# Altium schematic symbol library SamacSys.SchLib: 241 symbols (part 1 of 3)
Pins are listed as number, name and electrical type; pins without a type are passive.

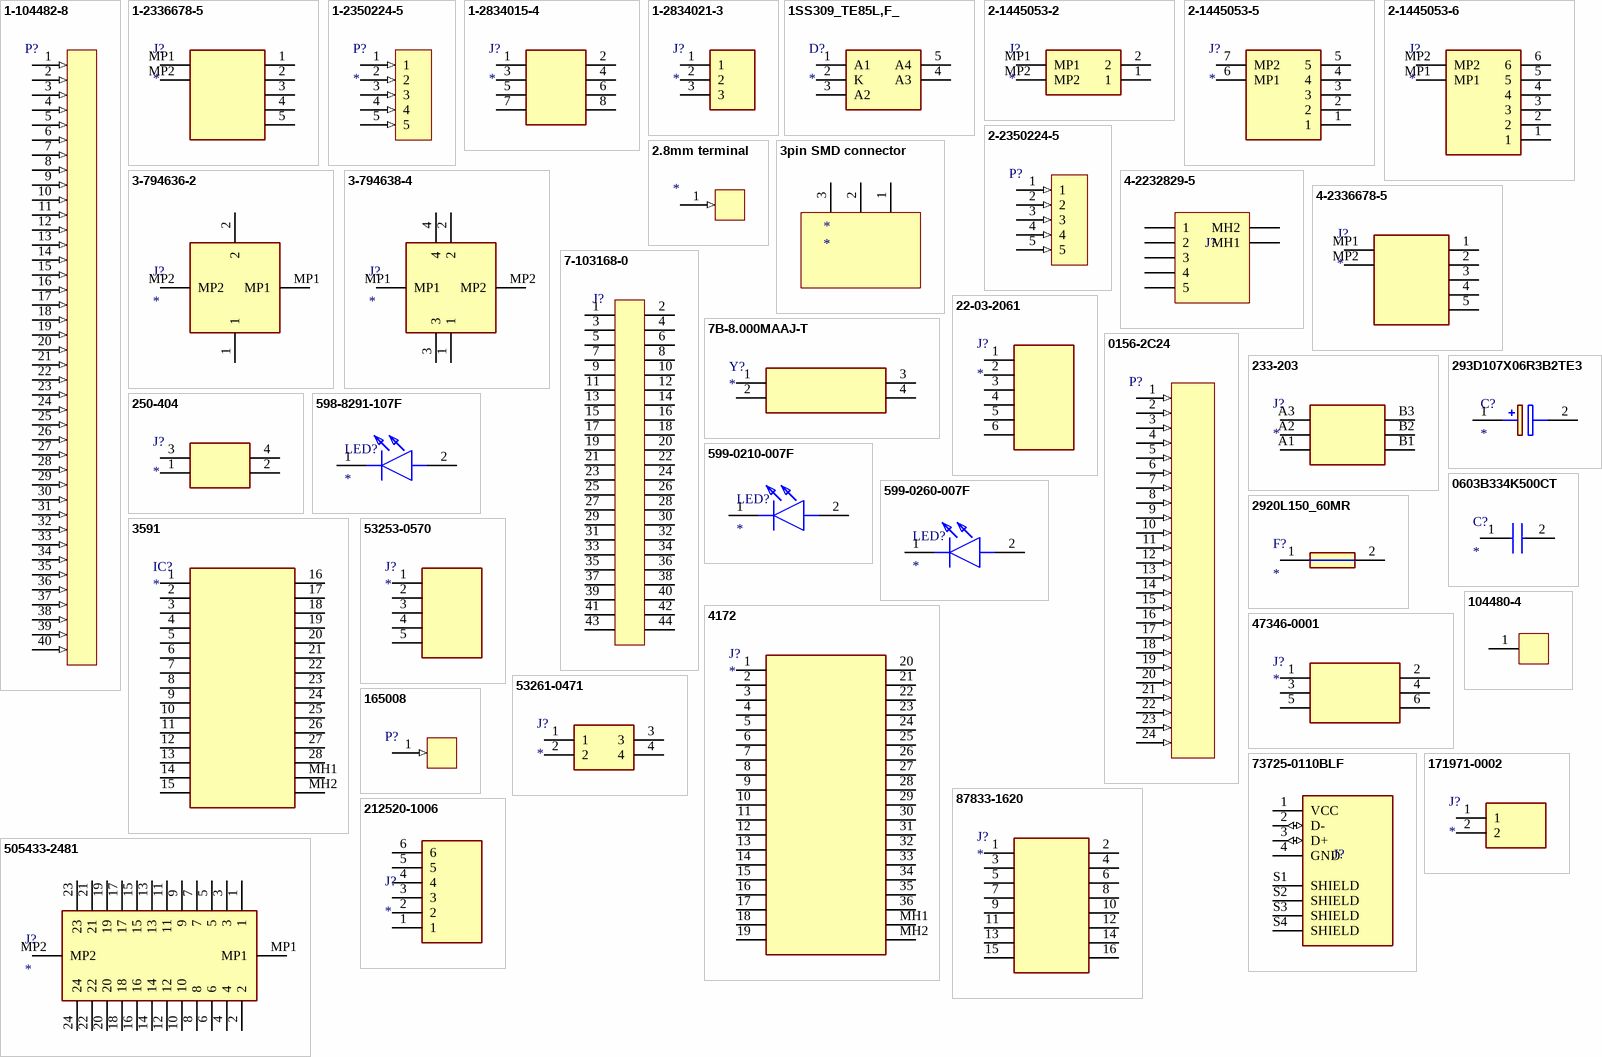
[diagram p0: symbols 1-104482-8 to 505433-2481]

## 1-104482-8
designator P?  (value not drawn)
40pin 2 row Wire to Board Housing (Harness)
footprint 1-104482-8 (40 pin 2 row connector (harness))
pins: 1 (in), 2 (in), 3 (in), 4 (in), 5 (in), 6 (in), 7 (in), 8 (in), 9 (in), 10 (in), 11 (in), 12 (in), 13 (in), 14 (in), 15 (in), 16 (in), 17 (in), 18 (in), 19 (in), 20 (in), 21 (in), 22 (in), 23 (in), 24 (in), 25 (in), 26 (in), 27 (in), 28 (in), 29 (in), 30 (in), 31 (in), 32 (in), 33 (in), 34 (in), 35 (in), 36 (in), 37 (in), 38 (in), 39 (in), 40 (in)

## 1-2336678-5
designator J?
Connector; Manufacturer_Name: TE Connectivity; Manufacturer_Part_Number: 1-2336678-5; Datasheet Link: https://www.te.com/en/product-1-2336678-5.html; Height: 7.76mm
footprint 123366785
pins: 1, 2, 3, 4, 5, MP1, MP2

## 1-2350224-5
designator P?
TE connector 5 pin 1 row (Harness)
footprint 1-2350224-5 (TE connector 5 pin 1 row (Harness))
pins: 1 (in), 2 (in), 3 (in), 4 (in), 5 (in)

## 1-2834015-4
designator J?
Connector; Manufacturer_Name: TE Connectivity; Manufacturer_Part_Number: 1-2834015-4; Allied_Number: 71211226; Datasheet Link: http://www.te.com/commerce/DocumentDelivery/DDEController?Action=srchrtrv&DocNm=2834015&DocType=Customer+Drawing&DocLang=English; Height: 13.9mm; Mouser Part Number: 571-1-2834015-4; Mouser Price/Stock: https://www.mouser.com/Search/Refine.aspx?Keyword=571-1-2834015-4; Allied Price/Stock: https://www.alliedelec.com/teconnectivity-1-2834015-4/71211226/
footprint SHDR8W90P508X254_2X4_1316X1280X1390P
pins: 1, 2, 3, 4, 5, 6, 7, 8

## 1-2834021-3
designator J?
Connector; Manufacturer_Name: TE Connectivity; Manufacturer_Part_Number: 1-2834021-3; Datasheet Link: https://www.te.com/commerce/DocumentDelivery/DDEController?Action=srchrtrv&DocNm=1-1773930-3_BuchananWM_Brochure&DocType=Data+Sheet&DocLang=English&PartCntxt=1-2834021-3&DocFormat=pdf; Height: 12.9mm; Mouser Part Number: 571-1-2834021-3; Mouser Price/Stock: https://www.mouser.co.uk/ProductDetail/TE-Connectivity/1-2834021-3?qs=0ns%252B%2F2Cp7jHv8i4bMwPkUg%3D%3D; Arrow Part Number: 1-2834021-3; Arrow Price/Stock: https://www.arrow.com/en/products/1-2834021-3/te-connectivity?region=nac
footprint 128340213
pins: 1, 2, 3

## 1SS309_TE85L,F_
designator D?
Diode; Manufacturer_Name: Toshiba; Manufacturer_Part_Number: 1SS309(TE85L,F); Datasheet Link: https://toshiba.semicon-storage.com/info/docget.jsp?did=3305&prodName=1SS309; Height: 1.4mm; Mouser Part Number: 757-1SS309TE85LF; Mouser Price/Stock: https://www.mouser.co.uk/ProductDetail/Toshiba/1SS309TE85LF?qs=JiHARDETuZC0u2sjx04cWA%3D%3D; Arrow Part Number: 1SS309(TE85L,F); Arrow Price/Stock: https://www.arrow.com/en/products/1ss309-te85lf/toshiba?region=nac
footprint 1SS309TE85LF
pins: 1 A1, 2 K, 3 A2, 4 A3, 5 A4

## 2-1445053-2
designator J?
Connector; Manufacturer_Name: TE Connectivity; Manufacturer_Part_Number: 2-1445053-2; Datasheet Link: https://www.te.com/commerce/DocumentDelivery/DDEController?Action=srchrtrv&DocNm=micro-mate-n-lok-connector-qrg&DocType=Data%20Sheet&DocLang=English&PartCntxt=2-1445053-2&DocFormat=pdf; Height: 4.5mm; Mouser Part Number: 571-2-1445053-2; Mouser Price/Stock: https://www.mouser.co.uk/ProductDetail/TE-Connectivity-AMP/2-1445053-2?qs=o%252BFOr83vtS83CwW8ESkohA%3D%3D; Arrow Part Number: 2-1445053-2; Arrow Price/Stock: https://www.arrow.com/en/products/2-1445053-2/te-connectivity?utm_currency=USD&region=nac
footprint 214450532
pins: 1, 2, MP1, MP2

## 2-1445053-5
designator J?
Connector; Manufacturer_Name: TE Connectivity; Manufacturer_Part_Number: 2-1445053-5; Datasheet Link: https://www.te.com/commerce/DocumentDelivery/DDEController?Action=srchrtrv&DocNm=1445053&DocType=Customer+Drawing&DocLang=English; Height: 9.44mm; Mouser Part Number: 571-2-1445053-5; Mouser Price/Stock: https://www.mouser.co.uk/ProductDetail/TE-Connectivity-AMP/2-1445053-5?qs=Eu63EZxBwKICIH%252B10d%252Bg6w%3D%3D; Arrow Part Number: 2-1445053-5; Arrow Price/Stock: https://www.arrow.com/en/products/2-1445053-5/te-connectivity
footprint 214450535
pins: 1, 2, 3, 4, 5, 6 MP1, 7 MP2

## 2-1445053-6
designator J?
Connector; Manufacturer_Name: TE Connectivity; Manufacturer_Part_Number: 2-1445053-6; Datasheet Link: https://www.te.com/commerce/DocumentDelivery/DDEController?Action=srchrtrv&DocNm=micro-mate-n-lok-connector-qrg&DocType=Data%20Sheet&DocLang=English&PartCntxt=2-1445053-6&DocFormat=pdf; Height: 9.24mm; Mouser Part Number: 571-2-1445053-6; Mouser Price/Stock: https://www.mouser.co.uk/ProductDetail/TE-Connectivity-AMP/2-1445053-6?qs=Eu63EZxBwKKYIFNYoD2IkQ%3D%3D; Arrow Part Number: 2-1445053-6; Arrow Price/Stock: https://www.arrow.com/en/products/2-1445053-6/te-connectivity
footprint 214450536
pins: 1, 2, 3, 4, 5, 6, MP1, MP2

## 2-2350224-5
designator P?  (value not drawn)
4-2232979-5 5 pin 1 row connector (Harness)
footprint 2-2350224-5 (5 pin 1 row connector (Harness))
pins: 1 (in), 2 (in), 3 (in), 4 (in), 5 (in)

## 2.8mm terminal
designator *  (value not drawn)
2.8mm terminal (crimp)
pins: 1 (in)

## 3-794636-2
designator J?
Connector; Manufacturer_Name: TE Connectivity; Manufacturer_Part_Number: 3-794636-2; Datasheet Link: https://www.te.com/commerce/DocumentDelivery/DDEController?Action=srchrtrv&DocNm=micro-mate-n-lok-connector-qrg&DocType=Data%20Sheet&DocLang=English&PartCntxt=3-794636-2&DocFormat=pdf; Height: 9.24mm; Mouser Part Number: 571-3-794636-2; Mouser Price/Stock: https://www.mouser.co.uk/ProductDetail/TE-Connectivity-AMP/3-794636-2?qs=v9Lq4wUS19yMv%2FoCX5pCFA%3D%3D; Arrow Part Number: 3-794636-2; Arrow Price/Stock: https://www.arrow.com/en/products/3-794636-2/te-connectivity
footprint 37946362
pins: 1, 2, MP1, MP2

## 3-794638-4
designator J?
Connector; Manufacturer_Name: TE Connectivity; Manufacturer_Part_Number: 3-794638-4; Datasheet Link: https://www.te.com/commerce/DocumentDelivery/DDEController?Action=srchrtrv&DocNm=micro-mate-n-lok-connector-qrg&DocType=Data%20Sheet&DocLang=English&PartCntxt=3-794638-4&DocFormat=pdf; Height: 9.37mm; Mouser Part Number: 571-3-794638-4; Mouser Price/Stock: https://www.mouser.co.uk/ProductDetail/TE-Connectivity-AMP/3-794638-4?qs=Rd%252BN518myCxan2OudY6UqA%3D%3D; Arrow Part Number: 3-794638-4; Arrow Price/Stock: https://www.arrow.com/en/products/3-794638-4/te-connectivity?region=nac
footprint 37946384
pins: 1, 2, 3, 4, MP1, MP2

## 3pin SMD connector
designator *
footprint 3pin connector SMD; pin to pad 1>A1 2>A2 3>A3
pins: 1, 2, 3

## 4-2232829-5
designator J?  (value not drawn)
SGI2.0 connector vertical
footprint 4-2232829-5 (PCB connector grace intertia 2.0 vertical)
pins: 1, 2, 3, 4, 5, MH1, MH2

## 4-2336678-5
designator J?
Connector; Manufacturer_Name: TE Connectivity; Manufacturer_Part_Number: 4-2336678-5; Datasheet Link: https://www.te.com/en/product-1-2336678-5.html; Height: 7.76mm
footprint 423366785
pins: 1, 2, 3, 4, 5, MP1, MP2

## 7-103168-0
designator J?  (value not drawn)
44 MODII HDR DRST SHRD .100CL
footprint 7-103168-0
pins: 1, 2, 3, 4, 5, 6, 7, 8, 9, 10, 11, 12, 13, 14, 15, 16, 17, 18, 19, 20, 21, 22, 23, 24, 25, 26, 27, 28, 29, 30, 31, 32, 33, 34, 35, 36, 37, 38, 39, 40, 41, 42, 43, 44

## 7B-8.000MAAJ-T
designator Y?
Crystal or Oscillator; Manufacturer_Name: TXC; Manufacturer_Part_Number: 7B-8.000MAAJ-T; Datasheet Link: http://www.txccrystal.com/images/pdf/7b.pdf; Mouser Part Number: 717-7B-8.000MAAJ-T; Mouser Price/Stock: https://www.mouser.com/Search/Refine.aspx?Keyword=717-7B-8.000MAAJ-T
footprint 7B; pin to pad 3>4 4>3
pins: 1, 2 GND_1, 3, 4 GND_2

## 22-03-2061
designator J?
Connector; Manufacturer_Name: Molex; Datasheet Link: http://www.molex.com/pdm_docs/sd/022032061_sd.pdf; Height: 11.17mm; Manufacturer_Part_Number: 22-03-2061; Mouser Part Number: 538-22-03-2061; Mouser Price/Stock: https://www.mouser.co.uk/ProductDetail/Molex/22-03-2061?qs=ILqg114nvd4SwQfnEo4EcQ%3D%3D
footprint HDRV6W82P0X254_1X6_1499X236X1117P
pins: 1, 2, 3, 4, 5, 6

## 0156-2C24
designator P?  (value not drawn)
Pluggable Terminal Connector for 1-2842487-2  2 row 12 pin
footprint 0156-2C24 (Kinco Driver GPIO controller 2 row 12 pin (Harness))
pins: 1 (in), 2 (in), 3 (in), 4 (in), 5 (in), 6 (in), 7 (in), 8 (in), 9 (in), 10 (in), 11 (in), 12 (in), 13 (in), 14 (in), 15 (in), 16 (in), 17 (in), 18 (in), 19 (in), 20 (in), 21 (in), 22 (in), 23 (in), 24 (in)

## 233-203
designator J?
Connector; Manufacturer_Name: Wago; Manufacturer_Part_Number: 233-203; Datasheet Link: https://wago.priintcloud.com/datasheets/233-203/en/0e0c7616b2ffc94404095570adf61bb7?attempt=1&signature=e598975677093b9ca0c7d21f4a8dfac5_1grff8pt1; Height: 15.5mm
footprint 233203
pins: A1, A2, A3, B1, B2, B3

## 250-404
designator J?
Connector; Manufacturer_Name: Wago; Manufacturer_Part_Number: 250-404; Datasheet Link: https://www.wago.com/in/pcb-terminal-blocks-and-pluggable-connectors/1-conductor-pcb-terminal-strip/p/250-404; Height: 13.1mm
footprint 250404
pins: 1, 2, 3, 4

## 293D107X06R3B2TE3
designator C?
Capacitor Polarised; Manufacturer_Name: Vishay; Manufacturer_Part_Number: 293D107X06R3B2TE3; Datasheet Link: http://www.vishay.com/docs/40002/293d.pdf; Height: 2.1mm; Mouser Part Number: N/A; Mouser Price/Stock: https://www.mouser.com/Search/Refine.aspx?Keyword=N%2FA
footprint CAPPM3528X210N
pins: 1 +, 2 -

## 598-8291-107F
designator LED?
LED; Manufacturer_Name: Dialight; Manufacturer_Part_Number: 598-8291-107F; Datasheet Link: https://componentsearchengine.com/Datasheets/1/598-8291-107F.pdf; Height: 0.68mm; Mouser Part Number: 645-598-8291-107F; Mouser Price/Stock: https://www.mouser.co.uk/ProductDetail/Dialight/598-8291-107F?qs=7JStj%2FjQ2SGrQp4L9K26JA%3D%3D; Arrow Part Number: 598-8291-107F; Arrow Price/Stock: https://www.arrow.com/en/products/598-8291-107f/dialight?region=nac
footprint LEDC3216X68N
pins: 1 K, 2 A

## 599-0210-007F
designator LED?
LED; Manufacturer_Name: Dialight; Manufacturer_Part_Number: 599-0210-007F; Datasheet Link: http://www.dialightsignalsandcomponents.com/Assets/Brochures_And_Catalogs/Indication/CBI_SMD_new/Dialight_CBI_data_599-1206_Apr2018.pdf; Height: 0.9mm; Mouser Part Number: 645-599-0210-007F; Mouser Price/Stock: https://www.mouser.co.uk/ProductDetail/Dialight/599-0210-007F?qs=gTYE2QTfZfRnv7f5dCtvhw%3D%3D
footprint LEDC3216X90N
pins: 1 K, 2 A

## 599-0260-007F
designator LED?
LED; Manufacturer_Name: Dialight; Manufacturer_Part_Number: 599-0260-007F; Datasheet Link: https://www.mouser.com/datasheet/2/109/Dialight_CBI_data_599-1206_Apr2018-1370591.pdf; Height: 0.9mm; Mouser Part Number: 645-599-0260-007F; Mouser Price/Stock: https://www.mouser.co.uk/ProductDetail/Dialight/599-0260-007F?qs=gTYE2QTfZfQJvJ6EQr5JuQ%3D%3D
footprint LEDM3216X90N
pins: 1 K, 2 A

## 0603B334K500CT
designator C?
Capacitor; Manufacturer_Name: Walsin Technology Corporation; Manufacturer_Part_Number: 0603B334K500CT; Datasheet Link: https://www.mouser.ie/datasheet/2/210/WTC_MLCC_General_Purpose-1534899.pdf; Height: 0.95mm; Mouser Part Number: 791-0603B334K500CT; Mouser Price/Stock: https://www.mouser.co.uk/ProductDetail/Walsin/0603B334K500CT?qs=hzBznG4dWXVGs39ciqiqOw%3D%3D
footprint CAPC1608X95N
pins: 1, 2

## 2920L150_60MR
designator F?
Fuse; Manufacturer_Name: LITTELFUSE; Manufacturer_Part_Number: 2920L150/60MR; Datasheet Link: https://www.littelfuse.com/media?resourcetype=datasheets&itemid=f237e8c2-1ed9-4c13-a738-dbe0738b3d2c&filename=2920l_datasheet_update.pdf; Height: 1.8mm; Mouser Part Number: 576-2920L150/60MR; Mouser Price/Stock: https://www.mouser.co.uk/ProductDetail/Littelfuse/2920L150-60MR?qs=ST9lo4GX8V38m%2FHq5uhZ8w%3D%3D; Arrow Part Number: 2920L150/60MR; Arrow Price/Stock: https://www.arrow.com/en/products/2920l15060mr/littelfuse?utm_currency=USD&region=nac
footprint FUSC7451X180N
pins: 1, 2

## 3591
designator IC?
Integrated Circuit; Manufacturer_Name: Adafruit; Manufacturer_Part_Number: 3591; Allied_Number: 71458397; Datasheet Link: https://cdn-learn.adafruit.com/downloads/pdf/adafruit-huzzah32-esp32-feather.pdf; Height: 15.6mm; Mouser Part Number: 485-3591; Mouser Price/Stock: https://www.mouser.com/Search/Refine.aspx?Keyword=485-3591; Allied Price/Stock: https://www.alliedelec.com/adafruitindustries-3591/71458397/
footprint 3591
pins: 1 IO21, 2 IO17, 3 IO16, 4 MISO, 5 MOSI, 6 SCK, 7 A5, 8 A4, 9 A3, 10 A2, 11 A1, 12 A0, 13 GND, 14 NC, 15 3V, 16 RST, 17 VBAT, 18 EN, 19 VBUS, 20 IO13, 21 IO12, 22 IO27, 23 IO33, 24 IO15, 25 IO32, 26 IO14, 27 SCL, 28 SDA, MH1, MH2

## 4172
designator J?
Connector; Manufacturer_Name: Adafruit; Manufacturer_Part_Number: 4172; Datasheet Link: https://www.adafruit.com/product/4172; Height: 4.8mm; Mouser Part Number: 485-4172; Mouser Price/Stock: https://www.mouser.com/Search/Refine.aspx?Keyword=485-4172
footprint 4172
pins: 1 RST, 2 36, 3 39, 4 34, 5 35, 6 32, 7 33, 8 25, 9 26, 10 27, 11 14, 12, 13, 14 3V, 15 GND_1, 16 NC_1, 17 TX_1, 18 RX_1, 19 V+, 20 NC_2, 21 GND_2, 22 BAT, 23 15, 24 #2, 25 #0, 26 #4, 27 16, 28 17, 29 #5, 30 18, 31 19, 32 21, 33 RX_2, 34 TX_2, 35 22, 36 23, MH1, MH2

## 47346-0001
designator J?
Connector; Manufacturer_Name: Molex; Manufacturer_Part_Number: 47346-0001; Allied_Number: 70266948; Datasheet Link: http://www.molex.com/pdm_docs/sd/473460001_sd.pdf; Mouser Part Number: 538-47346-0001; Mouser Price/Stock: https://www.mouser.com/Search/Refine.aspx?Keyword=538-47346-0001; RS Part Number: 7025475P; RS Price/Stock: http://uk.rs-online.com/web/p/products/7025475P; Allied Price/Stock: https://www.alliedelec.com/molex-incorporated-47346-0001/70266948/
footprint 47346-0001
pins: 1 VBUS, 2 D-, 3 D+, 4 ID, 5 GND, 6 Shield

## 53253-0570
designator J?
Connector; Manufacturer_Name: Molex; Manufacturer_Part_Number: 53253-0570; Allied_Number: 70372715; Datasheet Link: http://docs-emea.rs-online.com/webdocs/0dc7/0900766b80dc7d55.pdf; Height: 5.5mm; Mouser Part Number: 538-53253-0570; Mouser Price/Stock: https://www.mouser.com/Search/Refine.aspx?Keyword=538-53253-0570; RS Part Number: 6883280P; RS Price/Stock: http://uk.rs-online.com/web/p/products/6883280P; Allied Price/Stock: https://www.alliedelec.com/molexincorporated-53253-0570/70372715/
footprint SHDR5W50P0X200_1X5_1200X365X550P
pins: 1, 2, 3, 4, 5

## 53261-0471
designator J?
Connector; Manufacturer_Name: Molex; Manufacturer_Part_Number: 53261-0471; Datasheet Link: http://www.molex.com/webdocs/datasheets/pdf/en-us//0532610471_PCB_HEADERS.pdf; Mouser Part Number: 538-53261-0471; Mouser Price/Stock: https://www.mouser.co.uk/ProductDetail/Molex/53261-0471?qs=%252B72YyncTwW9e3et3PwnEMw%3D%3D; Arrow Part Number: 53261-0471; Arrow Price/Stock: null?region=nac
footprint 53261-0471
pins: 1, 2, 3, 4

## 73725-0110BLF
designator J?  (value not drawn)
USB connector 2.0
footprint 73725-0110BLF (USB connector 2.0)
pins: 1 VCC (power), 2 D- (io), 3 D+ (io), 4 GND (power), S1 SHIELD, S2 SHIELD, S3 SHIELD, S4 SHIELD

## 87833-1620
designator J?
Connector; Manufacturer_Name: Molex; Manufacturer_Part_Number: 87833-1620; Allied_Number: 70375137; Datasheet Link: http://www.molex.com/webdocs/datasheets/pdf/en-us//0878331620_PCB_HEADERS.pdf; Mouser Part Number: 538-87833-1620; Mouser Price/Stock: https://www.mouser.com/Search/Refine.aspx?Keyword=538-87833-1620; RS Part Number: 7978865; RS Price/Stock: https://uk.rs-online.com/web/p/products/7978865; Allied Price/Stock: https://www.alliedelec.com/molex-incorporated-87833-1620/70375137/
footprint 87833-1620
pins: 1, 2, 3, 4, 5, 6, 7, 8, 9, 10, 11, 12, 13, 14, 15, 16

## 104480-4
designator *  (value not drawn)
Female Crimp for 1-104482-8; Strip Length: 1mm
footprint 104480-4 (Crimp for 1-104482-8)
pins: 1

## 165008
designator P?  (value not drawn)
Spade Terminal 4mm TE fork; HelpURL: https://www.te.com/usa-en/product-165008.datasheet.pdf
footprint 165008 (Spade Terminal 4mm Fork (Harness))
pins: 1 (in)

## 171971-0002
designator J?
Connector; Manufacturer_Name: Molex; Manufacturer_Part_Number: 171971-0002; Datasheet Link: https://www.molex.com/pdm_docs/sd/1719710102_sd.pdf; Height: 12.16mm; Mouser Part Number: 538-171971-0002; Mouser Price/Stock: https://www.mouser.co.uk/ProductDetail/Molex/171971-0002?qs=lc2O%252BfHJPVZiIVvtLkRJ0A%3D%3D; Arrow Part Number: 171971-0002; Arrow Price/Stock: https://www.arrow.com/en/products/1719710002/molex?region=europe
footprint SHDR2W65P0X254_1X2_738X510X1216P
pins: 1, 2

## 212520-1006
designator J?
Connector; Manufacturer_Name: Molex; Manufacturer_Part_Number: 212520-1006; Datasheet Link: https://www.molex.com/pdm_docs/sd/2125201006_sd.pdf; Height: 13.6mm; Mouser Part Number: 538-212520-1006; Mouser Price/Stock: https://www.mouser.co.uk/ProductDetail/Molex/212520-1006?qs=pUKx8fyJudA8jKWmA%2FIrSg%3D%3D
footprint 212520-1006
pins: 1, 2, 3, 4, 5, 6

## 505433-2481
designator J?
Connector; Manufacturer_Name: Molex; Manufacturer_Part_Number: 505433-2481; Datasheet Link: https://www.molex.com/pdm_docs/sd/5054332481_sd.pdf; Height: 7.45mm; Mouser Part Number: 538-505433-2481; Mouser Price/Stock: https://www.mouser.co.uk/ProductDetail/Molex/505433-2481?qs=gt1LBUVyoHmi%252BX6jjqTc4w%3D%3D
footprint 5054332481
pins: 1, 2, 3, 4, 5, 6, 7, 8, 9, 10, 11, 12, 13, 14, 15, 16, 17, 18, 19, 20, 21, 22, 23, 24, MP1, MP2

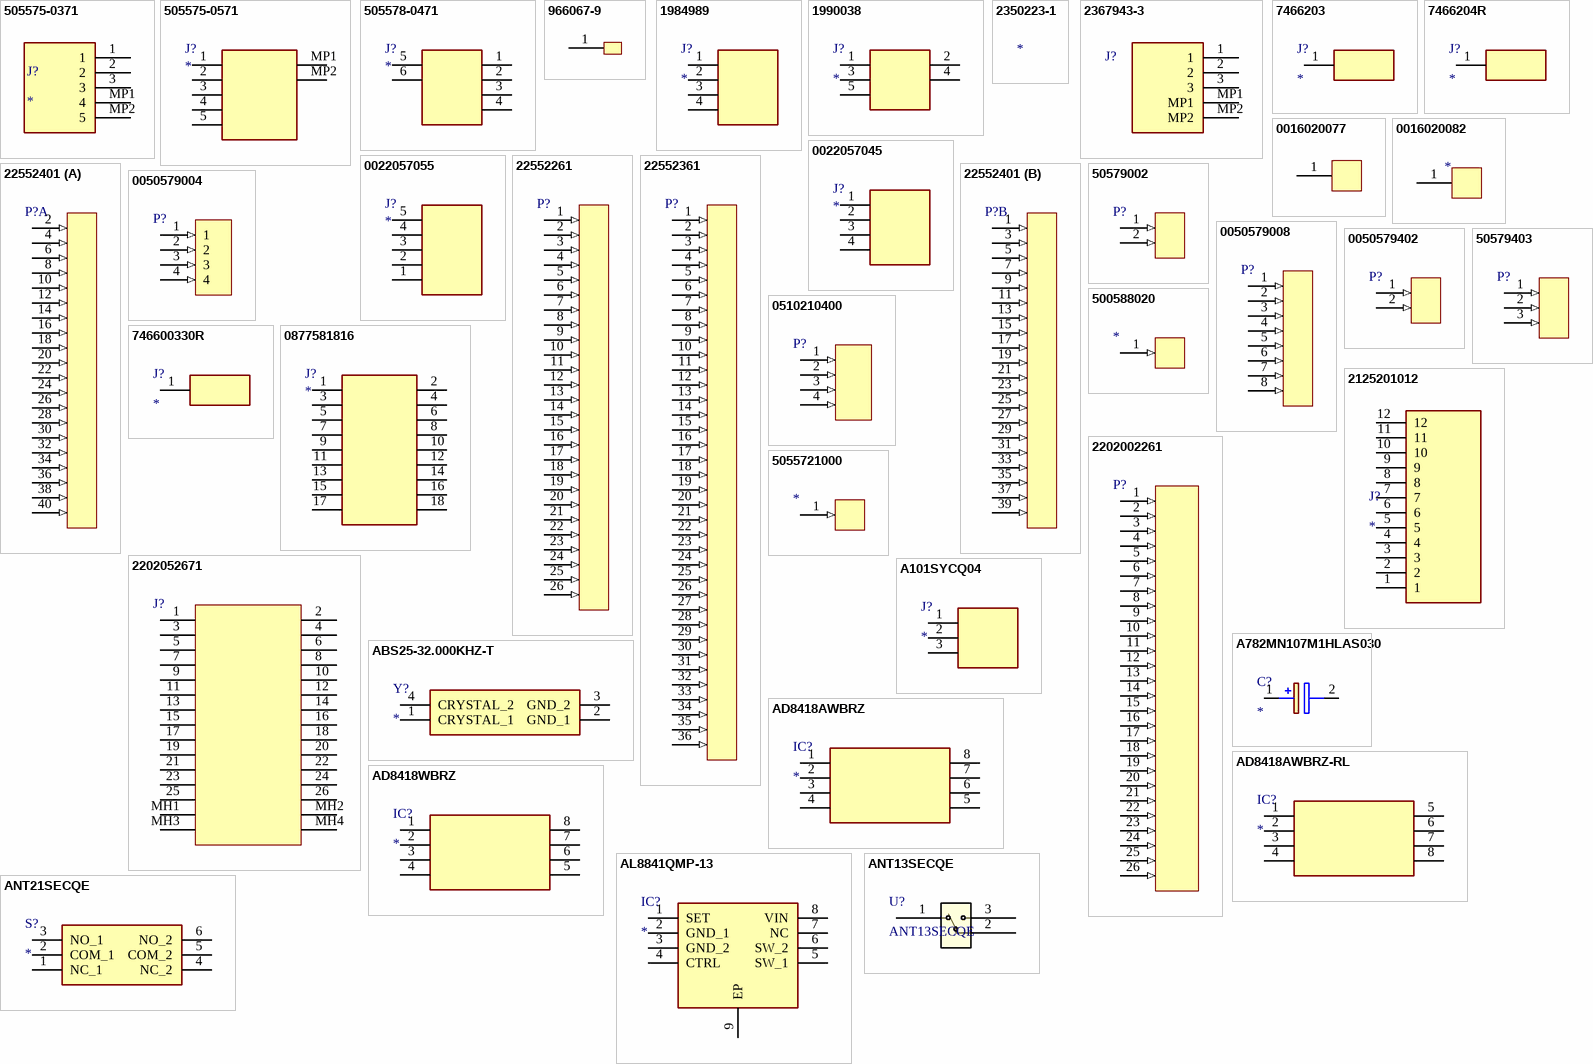
[diagram p1: symbols 505575-0371 to ANT21SECQE]

## 505575-0371
designator J?
Connector; Manufacturer_Name: Molex; Manufacturer_Part_Number: 505575-0371; Datasheet Link: https://componentsearchengine.com/Datasheets/1/505575-0371.pdf; Height: 8.8mm; Mouser Part Number: 538-505575-0371; Mouser Price/Stock: https://www.mouser.co.uk/ProductDetail/Molex/505575-0371?qs=55YtniHzbhAu5ZUwc2jI7A%3D%3D
footprint 5055750371
pins: 1, 2, 3, MP1 4, MP2 5

## 505575-0571
designator J?
Connector; Manufacturer_Name: Molex; Manufacturer_Part_Number: 505575-0571; Allied_Number: 71204949; Datasheet Link: https://www.molex.com/pdm_docs/sd/5055750571_sd.pdf; Height: 8.8mm; Mouser Part Number: 538-505575-0571; Mouser Price/Stock: https://www.mouser.com/Search/Refine.aspx?Keyword=538-505575-0571; RS Part Number: 1865131; RS Price/Stock: http://uk.rs-online.com/web/p/products/1865131; Allied Price/Stock: https://www.alliedelec.com/molexincorporated-505575-0571/71204949/
footprint 5055750571
pins: 1, 2, 3, 4, 5, MP1, MP2

## 505578-0471
designator J?
Connector; Manufacturer_Name: Molex; Manufacturer_Part_Number: 505578-0471; Allied_Number: 71204943; Datasheet Link: https://www.molex.com/pdm_docs/sd/5055780471_sd.pdf; Height: 5.9mm; Mouser Part Number: 538-505578-0471; Mouser Price/Stock: https://www.mouser.com/Search/Refine.aspx?Keyword=538-505578-0471; RS Part Number: 1865046; RS Price/Stock: http://uk.rs-online.com/web/p/products/1865046; Allied Price/Stock: https://www.alliedelec.com/molex-incorporated-505578-0471/71204943/
footprint 5055780471
pins: 1, 2, 3, 4, 5, 6

## 966067-9
designator *  (value not drawn)
Crimp ferrule terminal (Harness)
footprint 966067-9 (ferrule Terminal (Harness))
pins: 1

## 1984989
designator J?
Connector; Manufacturer_Name: Phoenix Contact; Manufacturer_Part_Number: 1984989; Datasheet Link: https://datasheet.datasheetarchive.com/originals/distributors/SFDatasheet-2/sf-00059051.pdf; Height: 13.1mm; Mouser Part Number: 651-1984989; Mouser Price/Stock: https://www.mouser.co.uk/ProductDetail/Phoenix-Contact/1984989?qs=gjk32EaArKIKoJA%252BzRGB2g%3D%3D; Arrow Part Number: 1984989; Arrow Price/Stock: https://www.arrow.com/en/products/1984989/phoenix-contact?region=nac
footprint 1984989
pins: 1, 2, 3, 4

## 1990038
designator J?
Connector; Manufacturer_Name: Phoenix Contact; Manufacturer_Part_Number: 1990038; Datasheet Link: http://www.phoenixcontact.net/product/1990038; Height: 16.4mm; Mouser Part Number: 651-1990038; Mouser Price/Stock: https://www.mouser.co.uk/ProductDetail/Phoenix-Contact/1990038?qs=sps7W%2FwBcGG%2Fj7A7AAdz8A%3D%3D; Arrow Part Number: 1990038; Arrow Price/Stock: https://www.arrow.com/en/products/1990038/phoenix-contact?region=nac
footprint 1990038
pins: 1, 2, 3, 4, 5

## 2350223-1
designator *  (value not drawn)
Crimp for 1-2350224-5

## 2367943-3
designator J?  (value not drawn)
Connector; Manufacturer_Name: TE Connectivity; Manufacturer_Part_Number: 2367943-3; Datasheet Link: https://www.te.com/commerce/DocumentDelivery/DDEController?Action=showdoc&DocId=Customer+Drawing%7F2367943%7FA%7Fpdf%7FEnglish%7FENG_CD_2367943_A.pdf%7F2367943-3; Height: 9.1mm
footprint 23679433
pins: 1, 2, 3, MP1, MP2

## 7466203
designator J?
Connector; Manufacturer_Name: Wurth Elektronik; Manufacturer_Part_Number: 7466203; Datasheet Link: https://componentsearchengine.com/Datasheets/2/7466203.pdf; Height: 7mm; Mouser Part Number: 710-7466203; Mouser Price/Stock: https://www.mouser.co.uk/ProductDetail/Wurth-Elektronik/7466203?qs=IfoubJuuTRb774UUJ30heA%3D%3D
footprint 7466203
pins: 1

## 7466204R
designator J?
Connector; Manufacturer_Name: Wurth Elektronik; Manufacturer_Part_Number: 7466204R; Datasheet Link: https://www.mouser.de/datasheet/2/445/7466204R-1723896.pdf; Height: 7mm; Mouser Part Number: 710-7466204R; Mouser Price/Stock: https://www.mouser.co.uk/ProductDetail/Wurth-Elektronik/7466204R?qs=%2FVVNuEXTTcLC2VgfUN3rsw%3D%3D
footprint 7466204R
pins: 1

## 0016020077
designator *  (value not drawn)
Male crimp for Molex SL
pins: 1

## 0016020082
designator *  (value not drawn)
Female Crimp for Molex SL
pins: 1

## 0022057045
designator J?
Connector; Manufacturer_Name: Molex; Manufacturer_Part_Number: 0022057045; Datasheet Link: https://www.molex.com/pdm_docs/sd/022057045_sd.pdf; Height: 5.1mm
footprint SHDR4W70P0X250_1X4_1240X790X510P
pins: 1, 2, 3, 4

## 0022057055
designator J?
Connector; Manufacturer_Name: Molex; Manufacturer_Part_Number: 0022057055; Datasheet Link: https://www.molex.com/pdm_docs/sd/022057055_sd.pdf; Height: 5.1mm; Mouser Part Number: N/A; Mouser Price/Stock: http://www.mouser.com/Search/ProductDetail.aspx?qs=PBcRNPEHKspyX0F0VoZaeg%3d%3d
footprint 0022057055
pins: 1, 2, 3, 4, 5

## 22552261
designator P?  (value not drawn)
13 position 2 row Connector (Harness)
footprint 22552261 (13 pin 2 row Connector (Harness))
pins: 1 (in), 2 (in), 3 (in), 4 (in), 5 (in), 6 (in), 7 (in), 8 (in), 9 (in), 10 (in), 11 (in), 12 (in), 13 (in), 14 (in), 15 (in), 16 (in), 17 (in), 18 (in), 19 (in), 20 (in), 21 (in), 22 (in), 23 (in), 24 (in), 25 (in), 26 (in)

## 22552361
designator P?  (value not drawn)
18 pin 2 row Connector (Harness)
footprint 22552361 (18 pin 2 row Connector (Harness))
pins: 1 (in), 2 (in), 3 (in), 4 (in), 5 (in), 6 (in), 7 (in), 8 (in), 9 (in), 10 (in), 11 (in), 12 (in), 13 (in), 14 (in), 15 (in), 16 (in), 17 (in), 18 (in), 19 (in), 20 (in), 21 (in), 22 (in), 23 (in), 24 (in), 25 (in), 26 (in), 27 (in), 28 (in), 29 (in), 30 (in), 31 (in), 32 (in), 33 (in), 34 (in), 35 (in), 36 (in)

## 22552401
designator P?  (value not drawn)
Molex SL connector 2.54mm 40 pin 2 row
footprint 22552401 (Molex SL 40pin 2 row 2.54m connector)
part A pins: 2 (in), 4 (in), 6 (in), 8 (in), 10 (in), 12 (in), 14 (in), 16 (in), 18 (in), 20 (in), 22 (in), 24 (in), 26 (in), 28 (in), 30 (in), 32 (in), 34 (in), 36 (in), 38 (in), 40 (in)
part B pins: 1 (in), 3 (in), 5 (in), 7 (in), 9 (in), 11 (in), 13 (in), 15 (in), 17 (in), 19 (in), 21 (in), 23 (in), 25 (in), 27 (in), 29 (in), 31 (in), 33 (in), 35 (in), 37 (in), 39 (in)

## 50579002
designator P?  (value not drawn)
2 pin 1 row connector (Harness)
pins: 1 (in), 2 (in)

## 0050579004
designator P?  (value not drawn)
SL connector single row 4 pin (Harness)
footprint 50579004 (4 pin SL connector (Harness))
pins: 1 (in), 2 (in), 3 (in), 4 (in)

## 0050579008
designator P?  (value not drawn)
Molex SL Connector 1 row 8 pin
footprint 0050579008 (Connector 1 row 8 pin (Harness))
pins: 1 (in), 2 (in), 3 (in), 4 (in), 5 (in), 6 (in), 7 (in), 8 (in)

## 0050579402
designator P?  (value not drawn)
Molex SL connector 2 pin single row (Harness)
footprint 0050579402
pins: 1 (in), 2 (in)

## 50579403
designator P?  (value not drawn)
Connector 3 pin (Harness)
footprint 50579403 (Connector 3 pin (Harness))
pins: 1 (in), 2 (in), 3 (in)

## 500588020
designator *
Crimp for Picoblade Connector Molex (Harness)
footprint 0500588020 (Crimp for PicoBlade Connector (Harness))
pins: 1 (in)

## 0510210400
designator P?  (value not drawn)
PicoBlade 4 pin Molex Connector (Harness)
footprint 0510210400 (PicoBlade 4 pin single row Connector (Harness))
pins: 1 (in), 2 (in), 3 (in), 4 (in)

## 746600330R
designator J?
Connector; Manufacturer_Name: Wurth Elektronik; Manufacturer_Part_Number: 746600330R; Datasheet Link: https://www.mouser.com/datasheet/2/445/746600330R-1095622.pdf; Height: 4mm; Mouser Part Number: 710-746600330R; Mouser Price/Stock: https://www.mouser.co.uk/ProductDetail/Wurth-Elektronik/746600330R?qs=lBTPRtX1sU8mwfQdkSz5%2FQ%3D%3D
footprint 746600330R
pins: 1

## 0877581816
designator J?
Connector; Manufacturer_Name: Molex; Manufacturer_Part_Number: 0877581816; Datasheet Link: http://www.molex.com/pdm_docs/sd/877582816_sd.pdf; Height: 5.75mm
footprint HDRV18W75P200_2X9_1790X400X575P
pins: 1, 2, 3, 4, 5, 6, 7, 8, 9, 10, 11, 12, 13, 14, 15, 16, 17, 18

## 2125201012
designator J?
Connector; Manufacturer_Name: Molex; Manufacturer_Part_Number: 2125201012; Datasheet Link: https://www.content.molex.com/dxdam/fe/fe5ac4d6-a867-4660-9741-5818ee12ee80/987652-3351.pdf?; Height: 13.6mm
footprint 2125201012
pins: 1, 2, 3, 4, 5, 6, 7, 8, 9, 10, 11, 12

## 2202002261
designator P?  (value not drawn)
Molex MicroLock Plus dual row 2*13 position
footprint 2202002261 (MicroLock Plus 2*13 pin Connector (Harness))
pins: 1 (in), 2 (in), 3 (in), 4 (in), 5 (in), 6 (in), 7 (in), 8 (in), 9 (in), 10 (in), 11 (in), 12 (in), 13 (in), 14 (in), 15 (in), 16 (in), 17 (in), 18 (in), 19 (in), 20 (in), 21 (in), 22 (in), 23 (in), 24 (in), 25 (in), 26 (in)

## 2202052671
designator J?  (value not drawn)
Molex Connector 2mm 2X13 right Angle; HelpURL: https://www.molex.com/en-us/products/part-detail/2202052671?display=pdf
footprint 2202052671 (Molex Connector 13X2 PCB connector)
pins: 1, 2, 3, 4, 5, 6, 7, 8, 9, 10, 11, 12, 13, 14, 15, 16, 17, 18, 19, 20, 21, 22, 23, 24, 25, 26, MH1, MH2, MH3, MH4

## 5055721000
designator *  (value not drawn)
Crimp for microlock plus Connector Molex
footprint 5055721000 (Crimp for MicroLock Plus Connector Molex)
pins: 1 (in)

## A101SYCQ04
designator J?
Connector; Manufacturer_Name: TE Connectivity; Manufacturer_Part_Number: A101SYCQ04; Allied_Number: 70156142; Datasheet Link: https://www.te.com/commerce/DocumentDelivery/DDEController?Action=showdoc&DocId=Customer+Drawing%7F1825136%7FA7%7Fpdf%7FEnglish%7FENG_CD_1825136_A7.pdf%7F4-1825136-5; Height: 15.5mm; Mouser Part Number: 506-A101SYCQ04; Mouser Price/Stock: https://www.mouser.com/Search/Refine.aspx?Keyword=506-A101SYCQ04; Allied Price/Stock: https://www.alliedelec.com/teconnectivity-a101sycq04/70156142/
footprint A101SYCQ04
pins: 1, 2, 3

## A782MN107M1HLAS030
designator C?
Capacitor Polarised; Manufacturer_Name: KEMET; Manufacturer_Part_Number: A782MN107M1HLAS030; Datasheet Link: https://content.kemet.com/datasheets/KEM_A4124_A782.pdf; Height: 10.5mm; Mouser Part Number: 80-A782MN107M1HLAS30; Mouser Price/Stock: https://www.mouser.co.uk/ProductDetail/KEMET/A782MN107M1HLAS030?qs=Imq1NPwxi77TLBqyZ7shLg%3D%3D
footprint CAPAE1030X1050N
pins: 1 +, 2 -

## ABS25-32.000KHZ-T
designator Y?
Crystal or Oscillator; Manufacturer_Name: ABRACON; Manufacturer_Part_Number: ABS25-32.000KHZ-T; Datasheet Link: https://abracon.com/Resonators/abs25.pdf; Height: 2.6mm; Mouser Part Number: 815-ABS25-32KT; Mouser Price/Stock: https://www.mouser.co.uk/ProductDetail/ABRACON/ABS25-32.000KHZ-T?qs=FESYatJ8odK%252BMaVafo1qPg%3D%3D; Arrow Part Number: ABS25-32.000KHZ-T; Arrow Price/Stock: https://www.arrow.com/en/products/abs25-32.000khz-t/abracon?utm_currency=USD&region=nac
footprint ABS2532000KHZT
pins: 1 CRYSTAL_1, 2 GND_1, 3 GND_2, 4 CRYSTAL_2

## AD8418AWBRZ
designator IC?
Integrated Circuit; Manufacturer_Name: Analog Devices; Manufacturer_Part_Number: AD8418AWBRZ; Datasheet Link: http://www.analog.com/media/en/technical-documentation/data-sheets/AD8418A.pdf; Height: 1.1mm; Mouser Part Number: 584-AD8418AWBRZ; Mouser Price/Stock: https://www.mouser.com/Search/Refine.aspx?Keyword=584-AD8418AWBRZ; RS Part Number: 7989903; RS Price/Stock: https://uk.rs-online.com/web/p/products/7989903
footprint SOP65P490X110-8N
pins: 1 -IN, 2 GND, 3 VREF2, 4 NC, 5 OUT, 6 VS, 7 VREF1, 8 +IN

## AD8418AWBRZ-RL
designator IC?
Integrated Circuit; Manufacturer_Name: Analog Devices; Manufacturer_Part_Number: AD8418AWBRZ-RL; Datasheet Link: https://componentsearchengine.com/Datasheets/1/AD8418AWBRZ-RL.pdf; Height: 1.75mm; Mouser Part Number: 584-AD8418AWBRZ-RL; Mouser Price/Stock: https://www.mouser.com/Search/Refine.aspx?Keyword=584-AD8418AWBRZ-RL
footprint SOT127P600X175-8N
pins: 1 -IN, 2 GND, 3 VREF2, 4 NC, 5 OUT, 6 VS, 7 VREF1, 8 +IN

## AD8418WBRZ
designator IC?
Integrated Circuit; Manufacturer_Name: Analog Devices; Manufacturer_Part_Number: AD8418WBRZ; Datasheet Link: https://componentsearchengine.com/Datasheets/2/AD8418WBRZ.pdf; Height: 1.75mm; Mouser Part Number: 584-AD8418WBRZ; Mouser Price/Stock: https://www.mouser.com/Search/Refine.aspx?Keyword=584-AD8418WBRZ; RS Part Number: 8209797P; RS Price/Stock: http://uk.rs-online.com/web/p/products/8209797P
footprint SOIC127P600X175-8N
pins: 1 IN-, 2 GND, 3 VREF2, 4 NC, 5 OUT, 6 VS, 7 VREF1, 8 IN+

## AL8841QMP-13
designator IC?
Integrated Circuit; Manufacturer_Name: Diodes Incorporated; Manufacturer_Part_Number: AL8841QMP-13; Datasheet Link: https://www.diodes.com/assets/Datasheets/AL8841Q.pdf; Height: 1.1mm; Mouser Part Number: 621-AL8841QMP-13; Mouser Price/Stock: https://www.mouser.co.uk/ProductDetail/Diodes-Incorporated/AL8841QMP-13?qs=dbcCsuKDzFWoEf%2Fc%252B9yEHg%3D%3D
footprint SOP65P490X110-9N
pins: 1 SET, 2 GND_1, 3 GND_2, 4 CTRL, 5 SW_1, 6 SW_2, 7 NC, 8 VIN, 9 EP

## ANT13SECQE
designator U?
Description; Manufacturer_Name: CIT Relay & Switch; Type: Toggle Switches; Copyright: Copyright (C) 2025 Ultra Librarian. All rights reserved.; Manufacturer_Part_Number: ANT13SECQE; RefDes: RefDes
footprint ANT13SEC_CRS
pins: 1, 2, 3

## ANT21SECQE
designator S?
Switch; Manufacturer_Name: CIT Relay & Switch; Manufacturer_Part_Number: ANT21SECQE; Datasheet Link: https://www.digikey.ph/en/products/detail/cit-relay-and-switch/ANT21SECQE/12503353; Height: 10.41mm
footprint ANT21SECQE
pins: 1 NC_1, 2 COM_1, 3 NO_1, 4 NC_2, 5 COM_2, 6 NO_2

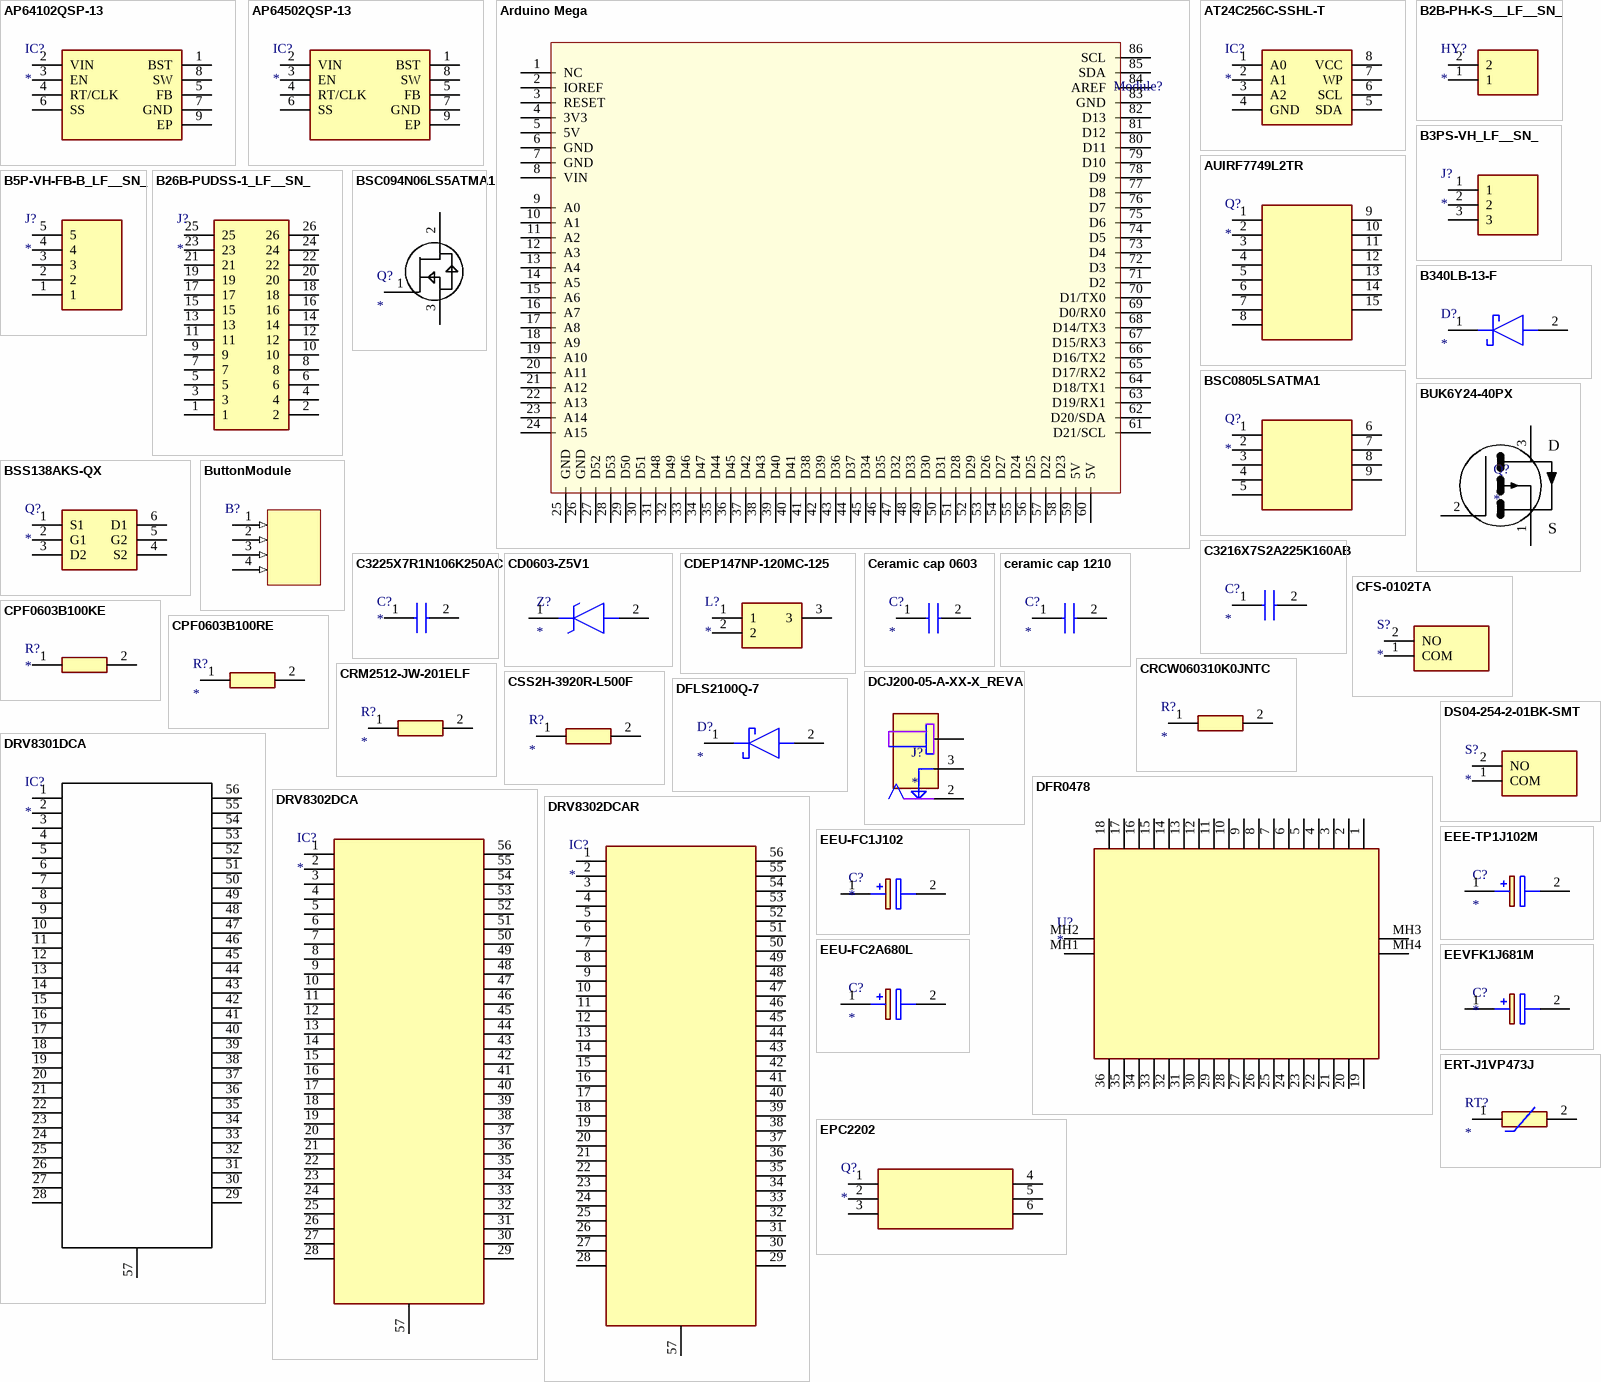
[diagram p2: symbols AP64102QSP-13 to ERT-J1VP473J]

## AP64102QSP-13
designator IC?
Integrated Circuit; Manufacturer_Name: Diodes Incorporated; Manufacturer_Part_Number: AP64102QSP-13; Datasheet Link: https://www.diodes.com//assets/Datasheets/AP64102Q.pdf; Height: 1.63mm; Mouser Part Number: 621-AP64102QSP-13; Mouser Price/Stock: https://www.mouser.co.uk/ProductDetail/Diodes-Incorporated/AP64102QSP-13?qs=7D1LtPJG0i3%252B8O9bdQmumA%3D%3D
footprint SOIC127P600X163-9N
pins: 1 BST, 2 VIN, 3 EN, 4 RT/CLK, 5 FB, 6 SS, 7 GND, 8 SW, 9 EP

## AP64502QSP-13
designator IC?
Integrated Circuit; Manufacturer_Name: Diodes Incorporated; Manufacturer_Part_Number: AP64502QSP-13; Datasheet Link: https://www.diodes.com/assets/Datasheets/AP64502Q.pdf; Height: 1.63mm; Mouser Part Number: 621-AP64502QSP-13; Mouser Price/Stock: https://www.mouser.co.uk/ProductDetail/Diodes-Incorporated/AP64502QSP-13?qs=IS%252B4QmGtzzowUaGiBacWLA%3D%3D; Arrow Part Number: AP64502QSP-13; Arrow Price/Stock: https://www.arrow.com/en/products/ap64502qsp-13/diodes-incorporated?region=nac
footprint SOIC127P600X163-9N
pins: 1 BST, 2 VIN, 3 EN, 4 RT/CLK, 5 FB, 6 SS, 7 GND, 8 SW, 9 EP

## Arduino Mega
designator Module?  (value not drawn)  (no BOM)
footprint Arduino Mega Shield (mega shield PCB)
pins: 1 NC, 2 IOREF, 3 RESET, 4 3V3, 5 5V, 6 GND, 7 GND, 8 VIN, 9 A0, 10 A1, 11 A2, 12 A3, 13 A4, 14 A5, 15 A6, 16 A7, 17 A8, 18 A9, 19 A10, 20 A11, 21 A12, 22 A13, 23 A14, 24 A15, 25 GND, 26 GND, 27 D52, 28 D53, 29 D50, 30 D51, 31 D48, 32 D49, 33 D46, 34 D47, 35 D44, 36 D45, 37 D42, 38 D43, 39 D40, 40 D41, 41 D38, 42 D39, 43 D36, 44 D37, 45 D34, 46 D35, 47 D32, 48 D33, 49 D30, 50 D31, 51 D28, 52 D29, 53 D26, 54 D27, 55 D24, 56 D25, 57 D22, 58 D23, 59 5V, 60 5V, 61 D21/SCL, 62 D20/SDA, 63 D19/RX1, 64 D18/TX1, 65 D17/RX2, 66 D16/TX2, 67 D15/RX3, 68 D14/TX3, 69 D0/RX0, 70 D1/TX0, 71 D2, 72 D3, 73 D4, 74 D5, 75 D6, 76 D7, 77 D8, 78 D9, 79 D10, 80 D11, 81 D12, 82 D13, 83 GND, 84 AREF, 85 SDA, 86 SCL

## AT24C256C-SSHL-T
designator IC?
Integrated Circuit; Manufacturer_Name: Microchip; Manufacturer_Part_Number: AT24C256C-SSHL-T; Datasheet Link: http://www.atmel.com/Images/Atmel-8568-SEEPROM-AT24C256C-Datasheet.pdf; Height: 1.75mm; Mouser Part Number: 556-AT24C256C-SSHL-T; Mouser Price/Stock: https://www.mouser.co.uk/ProductDetail/Microchip-Technology/AT24C256C-SSHL-T?qs=fzsaQExJLyR3ptk4tHE3tA%3D%3D; Arrow Part Number: AT24C256C-SSHL-T; Arrow Price/Stock: https://www.arrow.com/en/products/at24c256c-sshl-t/microchip-technology?utm_currency=USD&region=nac
footprint SOIC127P600X175-8N
pins: 1 A0, 2 A1, 3 A2, 4 GND, 5 SDA, 6 SCL, 7 WP, 8 VCC

## AUIRF7749L2TR
designator Q?
MOSFET (N-Channel); Manufacturer_Name: Infineon; Manufacturer_Part_Number: AUIRF7749L2TR; Datasheet Link: https://www.mouser.com/datasheet/2/196/auirf7749l2-1225782.pdf; Height: 1mm; Mouser Part Number: 942-AUIRF7749L2TR; Mouser Price/Stock: https://www.mouser.com/Search/Refine.aspx?Keyword=942-AUIRF7749L2TR
footprint IRF7749L2TRPBF
pins: 1 S_1, 2 S_2, 3 S_3, 4 S_4, 5 S_5, 6 S_6, 7 S_7, 8 S_8, 9 G, 10 D_1, 11 D_2, 12 D_3, 13 D_4, 14 D_5, 15 D_6

## B2B-PH-K-S__LF__SN_
designator HY?
Circulator or Directional Coupler; Manufacturer_Name: JST (JAPAN SOLDERLESS TERMINALS); Manufacturer_Part_Number: B2B-PH-K-S (LF)(SN); Datasheet Link: http://www.jst-mfg.com/product/pdf/eng/ePH.pdf; Height: 6mm
footprint B2BPHKSLFSN
pins: 1, 2

## B3PS-VH_LF__SN_
designator J?
Connector; Manufacturer_Name: JST (JAPAN SOLDERLESS TERMINALS); Manufacturer_Part_Number: B3PS-VH(LF)(SN); Datasheet Link: https://www.jst-mfg.com/product/pdf/eng/eVH.pdf?5facff3522240; Height: 8.5mm; Mouser Part Number: 306-B3PS-VHLFSN; Mouser Price/Stock: https://www.mouser.co.uk/ProductDetail/JST-Commercial/B3PS-VHLFSN?qs=QpmGXVUTftFQb6nuKzY8Xg%3D%3D; Arrow Part Number: B3PS-VH(LF)(SN); Arrow Price/Stock: https://www.arrow.com/en/products/b3ps-vh-lf-sn/jst-manufacturing?utm_currency=USD&region=europe
footprint SHDRRA3W114P0X396_1X3_1182X1090X850P
pins: 1, 2, 3

## B5P-VH-FB-B_LF__SN_
designator J?
Connector; Manufacturer_Name: JST (JAPAN SOLDERLESS TERMINALS); Manufacturer_Part_Number: B5P-VH-FB-B(LF)(SN); Datasheet Link: https://datasheet.lcsc.com/szlcsc/JST-Sales-America-VHsocket-1-5P-pitch3-96mm_C157988.pdf; Height: 11mm; Mouser Part Number: 306-B5PVHFBBLFSN; Mouser Price/Stock: https://www.mouser.co.uk/ProductDetail/JST-Commercial/B5P-VH-FB-BLFSN?qs=QpmGXVUTftE1siiHmB7TSw%3D%3D; Arrow Part Number: B5P-VH-FB-B(LF)(SN); Arrow Price/Stock: https://www.arrow.com/en/products/b5p-vh-fb-b-lf-sn/jst-manufacturing?region=europe
footprint B5PVHFBBLFSN
pins: 1, 2, 3, 4, 5

## B26B-PUDSS-1_LF__SN_
designator J?
Connector; Manufacturer_Name: JST (JAPAN SOLDERLESS TERMINALS); Manufacturer_Part_Number: B26B-PUDSS-1(LF)(SN); Datasheet Link: http://www.jst-mfg.com/product/pdf/eng/ePUD.pdf; Height: 9.6mm; Mouser Part Number: 306-B26BPUDSS1LFSN; Mouser Price/Stock: https://www.mouser.co.uk/ProductDetail/JST-Commercial/B26B-PUDSS-1LFSN?qs=QpmGXVUTftFJQh2fB1TGKg%3D%3D
footprint B26BPUDSS1LFSN
pins: 1, 2, 3, 4, 5, 6, 7, 8, 9, 10, 11, 12, 13, 14, 15, 16, 17, 18, 19, 20, 21, 22, 23, 24, 25, 26

## B340LB-13-F
designator D?
Schottky Diode; Manufacturer_Name: Diodes Inc.; Manufacturer_Part_Number: B340LB-13-F; Allied_Number: 70437569; Datasheet Link: https://www.diodes.com/assets/Datasheets/ds30240.pdf; Height: 2.5mm; Mouser Part Number: 621-B340LB-F; Mouser Price/Stock: https://www.mouser.com/Search/Refine.aspx?Keyword=621-B340LB-F; RS Part Number: 9228115; RS Price/Stock: https://uk.rs-online.com/web/p/products/9228115; Allied Price/Stock: https://www.alliedelec.com/diodesinc-b340lb-13-f/70437569/
footprint DIOM5336X250N
pins: 1 K, 2 A

## BSC094N06LS5ATMA1
designator Q?
MOSFET (N-Channel); Manufacturer_Name: Infineon; Manufacturer_Part_Number: BSC094N06LS5ATMA1; Datasheet Link: https://www.infineon.com/dgdl/Infineon-BSC094N06LS5-DataSheet-v02_01-EN.pdf?fileId=5546d4625c54d85b015cc5ce52407ba3; Height: 1.2mm; Mouser Part Number: 726-BSC094N06LS5ATMA; Mouser Price/Stock: https://www.mouser.co.uk/ProductDetail/Infineon-Technologies/BSC094N06LS5ATMA1?qs=HXFqYaX1Q2wxnZ4SrcBmyQ%3D%3D; Arrow Part Number: BSC094N06LS5ATMA1; Arrow Price/Stock: https://www.arrow.com/en/products/bsc094n06ls5atma1/infineon-technologies-ag?utm_currency=USD&region=nac
footprint BSC094N06LS5ATMA1
pins: 1 G, 2 D, 3 S

## BSC0805LSATMA1
designator Q?
MOSFET (N-Channel); Manufacturer_Name: Infineon; Manufacturer_Part_Number: BSC0805LSATMA1; Datasheet Link: https://eu.mouser.com/datasheet/2/196/Infineon_BSC0805LS_DataSheet-1770890.pdf; Height: 1.1mm; Mouser Part Number: 726-BSC0805LSATMA1; Mouser Price/Stock: https://www.mouser.co.uk/ProductDetail/Infineon-Technologies/BSC0805LSATMA1/?qs=BJlw7L4Cy7%2FPNwG2Srmp%2FQ%3D%3D
footprint BSC0805LSATMA1
pins: 1 S_1, 2 S_2, 3 S_3, 4 G, 5 D_1, 6 D_2, 7 D_3, 8 D_4, 9 D_5

## BSS138AKS-QX
designator Q?
MOSFET (N-Channel); Manufacturer_Name: Nexperia; Manufacturer_Part_Number: BSS138AKS-QX; Description: BSS138AKS-Q - 60 V; Datasheet Link: https://assets.nexperia.com/documents/data-sheet/BSS138AKS-Q.pdf; Height: 1.1mm; Mouser Part Number: 771-BSS138AKS-QX; Mouser Price/Stock: https://www.mouser.co.uk/ProductDetail/Nexperia/BSS138AKS-QX?qs=mELouGlnn3fIHRI05or7WA%3D%3D; Arrow Part Number: BSS138AKS-QX; Arrow Price/Stock: https://www.arrow.com/en/products/bss138aks-qx/nexperia?utm_currency=USD&region=nac
footprint SOT65P210X110-6N
pins: 1 S1, 2 G1, 3 D2, 4 S2, 5 G2, 6 D1

## BUK6Y24-40PX
designator Q?
MOSFET (P-Channel); Manufacturer_Name: Nexperia; Manufacturer_Part_Number: BUK6Y24-40PX; Datasheet Link: https://assets.nexperia.com/documents/data-sheet/BUK6Y24-40P.pdf; Height: 1.2mm; Mouser Part Number: 771-BUK6Y24-40PX; Mouser Price/Stock: https://www.mouser.co.uk/ProductDetail/Nexperia/BUK6Y24-40PX?qs=vmHwEFxEFR8tyd2WwTEwBg%3D%3D; Arrow Part Number: BUK6Y24-40PX; Arrow Price/Stock: https://www.arrow.com/en/products/buk6y24-40px/nexperia?region=nac
footprint BUK6Y2440PX
pins: 1 Source, 2 Gate, 3 Drain
text: D; S

## ButtonModule
designator B?  (value not drawn)
ButtonModule
footprint 53261-0471
pins: 1 NC1 (in), 2 NC2 (in), 3 LED- (in), 4 LED+ (in)

## C3216X7S2A225K160AB
designator C?
Capacitor; Manufacturer_Name: TDK; Manufacturer_Part_Number: C3216X7S2A225K160AB; Datasheet Link: https://product.tdk.com/info/en/catalog/datasheets/mlcc_commercial_midvoltage_en.pdf; Height: 1.8mm; Mouser Part Number: 810-C3216X7S2A225K; Mouser Price/Stock: https://www.mouser.com/Search/Refine.aspx?Keyword=810-C3216X7S2A225K; RS Part Number: 7883079P; RS Price/Stock: http://uk.rs-online.com/web/p/products/7883079P
footprint CAPC3216X180N
pins: 1, 2

## C3225X7R1N106K250AC
designator C?
Capacitor; Manufacturer_Name: TDK; Manufacturer_Part_Number: C3225X7R1N106K250AC; Datasheet Link: https://product.tdk.com/info/en/catalog/datasheets/mlcc_commercial_midvoltage_en.pdf; Height: 2.3mm; Mouser Part Number: 810-C3225X7R1N106K25; Mouser Price/Stock: https://www.mouser.com/Search/Refine.aspx?Keyword=810-C3225X7R1N106K25
footprint CAPC3225X230N
pins: 1, 2

## CD0603-Z5V1
designator Z?
Zener Diode; Manufacturer_Name: Bourns; Manufacturer_Part_Number: CD0603-Z5V1; Datasheet Link: https://media.digikey.com/pdf/Data%20Sheets/Bourns%20PDFs/D0603_1005-Z.pdf; Height: 0.85mm; Mouser Part Number: 652-CD0603-Z5V1; Mouser Price/Stock: https://www.mouser.com/Search/Refine.aspx?Keyword=652-CD0603-Z5V1
footprint DIOC1709X85N
pins: 1 K, 2 A

## CDEP147NP-120MC-125
designator L?
Inductor; Manufacturer_Name: Sumida; Manufacturer_Part_Number: CDEP147NP-120MC-125; Datasheet Link: http://products.sumida.com/products/pdf/CDEP147.pdf; Height: 8mm; Mouser Part Number: 851-CDEP147NP120-125; Mouser Price/Stock: https://www.mouser.co.uk/ProductDetail/Sumida/CDEP147NP-120MC-125?qs=ttApTud31JaX4dhb%2Fd%252BXcw%3D%3D; Arrow Part Number: CDEP147NP-120MC-125; Arrow Price/Stock: https://www.arrow.com/en/products/cdep147np-120mc-125/sumida
footprint CDEP147NP120MC125
pins: 1, 2, 3

## Ceramic cap 0603
designator C?
Capacitor; Manufacturer_Name: AVX; Manufacturer_Part_Number: 04024D225KAT2A; Datasheet Link: http://www.mouser.com/catalog/supplier/library/pdf/AVXSurfaceMountCeramic.pdf; Height: 0.56mm; Mouser Part Number: 581-04024D225KAT2A; Mouser Price/Stock: https://www.mouser.com/Search/Refine.aspx?Keyword=581-04024D225KAT2A
footprint RESC1608X55N
pins: 1, 2

## ceramic cap 1210
designator C?
Capacitor; Manufacturer_Name: TDK; Manufacturer_Part_Number: C3225X7S2A475K200AE; Datasheet Link: https://product.tdk.com/info/en/catalog/datasheets/mlcc_commercial_midvoltage_en.pdf; Height: 2mm; Mouser Part Number: 810-C3225X7S2A475KST; Mouser Price/Stock: https://www.mouser.com/Search/Refine.aspx?Keyword=810-C3225X7S2A475KST; RS Part Number: 1795866; RS Price/Stock: https://uk.rs-online.com/web/p/products/1795866
footprint CAPC3225X200N
pins: 1, 2

## CFS-0102TA
designator S?
Switch; Manufacturer_Name: Nidec Copal; Manufacturer_Part_Number: CFS-0102TA; Datasheet Link: https://www.mouser.at/datasheet/2/972/cfs-1628139.pdf; Height: 4.5mm; Mouser Part Number: 229-CFS-0102TA; Mouser Price/Stock: https://www.mouser.co.uk/ProductDetail/Nidec-Components/CFS-0102TA?qs=XeJtXLiO41Qa%2Fz7Gp%252BxLVg%3D%3D
footprint CFS0102TA
pins: 1 COM, 2 NO

## CPF0603B100KE
designator R?
Resistor; Manufacturer_Name: TE Connectivity; Manufacturer_Part_Number: CPF0603B100KE; Allied_Number: 70286644; Datasheet Link: http://www.farnell.com/datasheets/1786775.pdf; Height: 0.55mm; Mouser Part Number: 279-CPF0603B100KE; Mouser Price/Stock: https://www.mouser.com/Search/Refine.aspx?Keyword=279-CPF0603B100KE; RS Part Number: 6662190; RS Price/Stock: https://uk.rs-online.com/web/p/products/6662190; Allied Price/Stock: https://www.alliedelec.com/te-connectivity-cpf0603b100ke/70286644/
footprint RESC1608X55N
pins: 1, 2

## CPF0603B100RE
designator R?
Resistor; Manufacturer_Name: TE Connectivity; Manufacturer_Part_Number: CPF0603B100RE; Allied_Number: 70286645; Datasheet Link: http://www.farnell.com/datasheets/1786775.pdf; Height: 0.55mm; Mouser Part Number: 279-CPF0603B100RE; Mouser Price/Stock: https://www.mouser.com/Search/Refine.aspx?Keyword=279-CPF0603B100RE; RS Part Number: 6661951P; RS Price/Stock: http://uk.rs-online.com/web/p/products/6661951P; Allied Price/Stock: https://www.alliedelec.com/te-connectivity-cpf0603b100re/70286645/
footprint RESC1608X55N
pins: 1, 2

## CRCW060310K0JNTC
designator R?
Resistor; Manufacturer_Name: Vishay; Manufacturer_Part_Number: CRCW060310K0JNTC; Datasheet Link: http://www.vishay.com/docs/20035/dcrcwe3.pdf; Height: 0.5mm
footprint RESC1608X50N
pins: 1, 2

## CRM2512-JW-201ELF
designator R?
Resistor; Manufacturer_Name: Bourns; Manufacturer_Part_Number: CRM2512-JW-201ELF; Datasheet Link: http://www.bourns.com/data/global/pdfs/CRM0805_1206_2010.pdf; Height: 0.8mm; Mouser Part Number: 652-CRM2512-JW201ELF; Mouser Price/Stock: https://www.mouser.co.uk/ProductDetail/Bourns/CRM2512-JW-201ELF?qs=Xc6LkW71rl18iQUVOMRVyw%3D%3D; Arrow Part Number: CRM2512-JW-201ELF; Arrow Price/Stock: https://www.arrow.com/en/products/crm2512-jw-201elf/bourns
footprint RESC6331X80N
pins: 1, 2

## CSS2H-3920R-L500F
designator R?
Resistor; Manufacturer_Name: Bourns; Manufacturer_Part_Number: CSS2H-3920R-L500F; Allied_Number: 70883778; Datasheet Link: https://componentsearchengine.com/Datasheets/2/CSS2H-3920R-L500F.pdf; Height: 1.37mm; Mouser Part Number: 652-CSS2H3920RL500F; Mouser Price/Stock: https://www.mouser.com/Search/Refine.aspx?Keyword=652-CSS2H3920RL500F; RS Part Number: 1348150; RS Price/Stock: http://uk.rs-online.com/web/p/products/1348150; Allied Price/Stock: https://www.alliedelec.com/bourns-css2h-3920r-l500f/70883778/
footprint RESC10052X137N
pins: 1, 2

## DCJ200-05-A-XX-X_REVA
designator J?
Power Barrel Connector Jack 2.05mm ID (0.081), 5.50mm OD (0.217) Surface Mount, Right Angle; MF: Global Connector Technology; MP: DCJ200-05-A-K1-A; Value: *; SnapEDA_Link: https://www.snapeda.com/parts/DCJ200-05-A-K1-A/Global+Connector+Technology/view-part/?ref=snap; Purchase-URL: https://pricing.snapeda.com/search/part/DCJ200-05-A-K1-A/?ref=eda; Check_prices: https://www.snapeda.com/parts/DCJ200-05-A-K1-A/Global+Connector+Technology/view-part/?ref=eda; Digi-Key_Part_Number: 2073-DCJ200-05-A-K1-ATR-ND; Package: None
footprint GCT_DCJ200-05-A-XX-X_REVA
pins: 1.1 1, 1.2 1, 2, 3

## DFLS2100Q-7
designator D?
Schottky Diode; Manufacturer_Name: Diodes Inc.; Manufacturer_Part_Number: DFLS2100Q-7; Datasheet Link: https://componentsearchengine.com/Datasheets/1/DFLS2100Q-7.pdf; Height: 1mm; Mouser Part Number: 621-DFLS2100Q-7; Mouser Price/Stock: https://www.mouser.co.uk/ProductDetail/Diodes-Incorporated/DFLS2100Q-7?qs=wtVJq%252Be05r%252BJbZKilGi9xg%3D%3D; Arrow Part Number: DFLS2100Q-7; Arrow Price/Stock: https://www.arrow.com/en/products/dfls2100q-7/diodes-incorporated
footprint DFLS2100Q7
pins: 1 K, 2 A

## DFR0478
designator U?
Undefined or Miscellaneous; Manufacturer_Name: DFRobot; Manufacturer_Part_Number: DFR0478; Datasheet Link: https://github.com/Robert-MARKII/Document/blob/master/FireBeetle%20Board-ESP32%20User%20Manual%20update.pdf; Mouser Part Number: 426-DFR0478; Mouser Price/Stock: https://www.mouser.com/Search/Refine.aspx?Keyword=426-DFR0478
footprint FIREBEETLE_ESP32
pins: 1 IO3/RXD, 2 IO1/TXD, 3 IO25/D2, 4 IO26/D3, 5 IO27/D4, 6 IO9/D5, 7 IO10/D6, 8 IO13/D7, 9 IO5/D8, 10 IO2/D9, 11 IO6/CLK, 12 IO7/SD0, 13 IO8/SD1, 14 IO11/CMD, 15 GND, 16 AREF, 17 3V3, 18 VCC, 19 A0/IO36, 20 A1/IO39, 21 A2/IO34, 22 A3/IO35, 23 A4/IO15, 24 NC, 25 IO0, 26 SCK/IO18, 27 MOSI/IO23, 28 MISO/IO19, 29 SDA/IO21, 30 SCL/IO22, 31 BCLK/IO14, 32 MCLK/IO12, 33 DO/IO4, 34 DI/IO16, 35 LRCK/IO17, 36 RST, MH1, MH2, MH3, MH4

## DRV8301DCA
designator IC?
Integrated Circuit; Manufacturer_Name: Texas Instruments; Manufacturer_Part_Number: DRV8301DCA; Datasheet Link: http://www.ti.com/lit/ds/symlink/drv8301.pdf; Height: 1.2mm; Mouser Part Number: 595-DRV8301DCA; Mouser Price/Stock: https://www.mouser.com/Search/Refine.aspx?Keyword=595-DRV8301DCA; RS Part Number: 8136466P; RS Price/Stock: http://uk.rs-online.com/web/p/products/8136466P
footprint SOP50P810X120-57N (Footprint not found)
pins: 1 RT_CLK, 2 COMP, 3 VSENSE, 4 PWRGD, 5 NOCTW, 6 NFAULT, 7 DTC, 8 NSCS, 9 SDI, 10 SDO, 11 SCLK, 12 DC_CAL, 13 GVDD, 14 CP1, 15 CP2, 16 EN_GATE, 17 INH_A, 18 INL_A, 19 INH_B, 20 INL_B, 21 INH_C, 22 INL_C, 23 DVDD, 24 REF, 25 SO1, 26 SO2, 27 AVDD, 28 AGND, 29 PVDD1, 30 SP2, 31 SN2, 32 SP1, 33 SN1, 34 SL_C, 35 GL_C, 36 SH_C, 37 GH_C, 38 BST_C, 39 SL_B, 40 GL_B, 41 SH_B, 42 GH_B, 43 BST_B, 44 SL_A, 45 GL_A, 46 SH_A, 47 GH_A, 48 BST_A, 49 VDD_SPI, 50 PH_1, 51 PH_2, 52 BST_BK, 53 PVDD2_1, 54 PVDD2_2, 55 EN_BUCK, 56 SS_TR, 57 EP

## DRV8302DCA
designator IC?
Integrated Circuit; Manufacturer_Name: Texas Instruments; Manufacturer_Part_Number: DRV8302DCA; Datasheet Link: http://www.ti.com/lit/ds/symlink/drv8302.pdf; Height: 1.2mm; Mouser Part Number: 595-DRV8302DCA; Mouser Price/Stock: https://www.mouser.co.uk/ProductDetail/Texas-Instruments/DRV8302DCA?qs=UMk2QrKu%2FwwgoG3aN39ZGg%3D%3D; Arrow Part Number: DRV8302DCA; Arrow Price/Stock: https://www.arrow.com/en/products/drv8302dca/texas-instruments?region=nac
footprint SOP50P810X120-57N
pins: 1 RT_CLK, 2 COMP, 3 VSENSE, 4 PWRGD, 5 NOCTW, 6 NFAULT, 7 DTC, 8 M_PWM, 9 M_OC, 10 GAIN, 11 OC_ADJ, 12 DC_CAL, 13 GVDD, 14 CP1, 15 CP2, 16 EN_GATE, 17 INH_A, 18 INL_A, 19 INH_B, 20 INL_B, 21 INH_C, 22 INL_C, 23 DVDD, 24 REF, 25 SO1, 26 SO2, 27 AVDD, 28 AGND, 29 PVDD1, 30 SP2, 31 SN2, 32 SP1, 33 SN1, 34 SL_C, 35 GL_C, 36 SH_C, 37 GH_C, 38 BST_C, 39 SL_B, 40 GL_B, 41 SH_B, 42 GH_B, 43 BST_B, 44 SL_A, 45 GL_A, 46 SH_A, 47 GH_A, 48 BST_A, 49 BIAS, 50 PH_1, 51 PH_2, 52 BST_BK, 53 PVDD2_1, 54 PVDD2_2, 55 EN_BUCK, 56 SS_TR, 57 EP

## DRV8302DCAR
designator IC?
Integrated Circuit; Manufacturer_Name: Texas Instruments; Manufacturer_Part_Number: DRV8302DCAR; Datasheet Link: http://www.ti.com/lit/gpn/drv8302; Height: 1.2mm; Mouser Part Number: 595-DRV8302DCAR; Mouser Price/Stock: https://www.mouser.co.uk/ProductDetail/Texas-Instruments/DRV8302DCAR?qs=UMk2QrKu%2FwyEhbV7PXJXLQ%3D%3D; Arrow Part Number: DRV8302DCAR; Arrow Price/Stock: https://www.arrow.com/en/products/drv8302dcar/texas-instruments?region=nac
footprint SOP50P810X120-57N
pins: 1 RT_CLK, 2 COMP, 3 VSENSE, 4 PWRGD, 5 NOCTW, 6 NFAULT, 7 DTC, 8 M_PWM, 9 M_OC, 10 GAIN, 11 OC_ADJ, 12 DC_CAL, 13 GVDD, 14 CP1, 15 CP2, 16 EN_GATE, 17 INH_A, 18 INL_A, 19 INH_B, 20 INL_B, 21 INH_C, 22 INL_C, 23 DVDD, 24 REF, 25 SO1, 26 SO2, 27 AVDD, 28 AGND, 29 PVDD1, 30 SP2, 31 SN2, 32 SP1, 33 SN1, 34 SL_C, 35 GL_C, 36 SH_C, 37 GH_C, 38 BST_C, 39 SL_B, 40 GL_B, 41 SH_B, 42 GH_B, 43 BST_B, 44 SL_A, 45 GL_A, 46 SH_A, 47 GH_A, 48 BST_A, 49 BIAS, 50 PH_1, 51 PH_2, 52 BST_BK, 53 PVDD2_1, 54 PVDD2_2, 55 EN_BUCK, 56 SS_TR, 57 GND

## DS04-254-2-01BK-SMT
designator S?
Switch; Manufacturer_Name: Same Sky; Manufacturer_Part_Number: DS04-254-2-01BK-SMT; Datasheet Link: https://www.sameskydevices.com/product/resource/ds04-254-smt.pdf; Height: 4.85mm; Mouser Part Number: 490-DS04254201BK-SMT; Mouser Price/Stock: https://www.mouser.co.uk/ProductDetail/Same-Sky/DS04-254-2-01BK-SMT?qs=wnTfsH77Xs7VDGZ8jaePmA%3D%3D; Arrow Part Number: DS04-254-2-01BK-SMT; Arrow Price/Stock: https://www.arrow.com/en/products/ds04-254-2-01bk-smt/cui-devices?utm_currency=USD&region=nac
footprint DS04254201BKSMT (Footprint not found)
pins: 1 COM, 2 NO